# Altium schematic symbol library miniusb.SchLib: 1 symbol
Pins are listed as number, name and electrical type; pins without a type are passive.

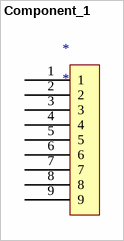
[diagram p0: symbol Component_1]

## Component_1
designator *
footprint MiniUSB
pins: 1, 2, 3, 4, 5, 6, 7, 8, 9